# EAGLE library part PCA9306DC (library 3DRobotics_Master_Library)
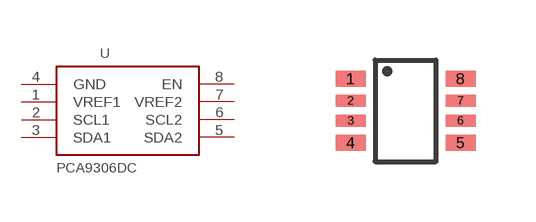
[diagram p8: symbol with the pads of VSSOP8; footprint VSSOP8]

Designator prefix -

## PCA9306DC (MFGPN: PCA9306DC)  [VSSOP8]
1  VREF1  pwr
2  SCL1
3  SDA1
4  GND  pwr
5  SDA2
6  SCL2
7  VREF2  pwr
8  EN  in

## Footprint VSSOP8 (pad centres in mm)
smd 0.75 x 0.4: 1 -1.375,0.8; 4 -1.375,-0.8; 5 1.375,-0.8; 8 1.375,0.8
smd 0.75 x 0.3: 2 -1.375,0.25; 3 -1.375,-0.25; 6 1.375,-0.25; 7 1.375,0.25